# Altium schematic symbol library mill-max-contacts.SchLib: 1 symbol
Pins are listed as number, name and electrical type; pins without a type are passive.

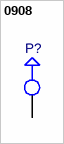
[diagram p0: symbol 0908]

## 0908
designator P?, comment 000000  (value not drawn)
Discrete Spring-Loaded Contact; MF: Mill-Max; Value: 0908-3-15-20-75-14-11-0; PN: 000000; Package: PTH; ExtraInfo: *
footprint SM-TP-1.27-1 (SM Test Point - 1.27mm)
footprint SM-TP-1.5X1.5MM-SQ (SM Test Point - 1.5x1.5mm Square)
footprint SM-TP-2X2MM-SQ (SM Test Point - 2.0x2.0mm Square)
footprint SM-TP-1.0MM-R (SM Test Point - 1.0mm Round)
footprint 0908-3 (Spring-Loaded Contact 8mm)
pins: 1